# EAGLE library part MXD2125 (library diode-20CJQ030)
MEMSIC's MXD2125 G/H M/N FEATURES: Resolution better than 1 milli-g Dual axis accelerometer fabricated on a monolithic CMOS IC On chip mixed mode signal processing No moving parts 50,000 g shock survival rating 17 Hz bandwidth expandable to >160 Hz 3.0V to 5.25V single supply continuous operation Continuous self test Independent axis programmability (special order) Compensated for Sensitivity over temperature Ultra low initial Zero-g Offset APPLICATIONS: Automotive: Vehicle Security/Vehicle stability control/ Headlight Angle Control/Tilt Sensing Security: Gas Line/Elevator/Fatigue Sensing Information Appliances Computer Peripherals/PDA?s/Mouse Smart Pens/Cell Phones Gaming: Joystick/RF Interface/Menu Selection/Tilt Sensing GPS: electronic Compass tilt Correction Consumer: LCD projectors, pedometers, blood pressure Monitor, digital cameras GENERAL DESCRIPTION The MXD2125G/H/M/N is a low cost, dual axis accelerometer fabricated on a standard, submicron CMOS process. It is a complete sensing system with on-chip mixed mode signal processing. The MXD2125G/H/M/N measures acceleration with a full-scale range of ±3 g and a sensitivity of 12.5%/g @5V at 25°C. It can measure both dynamic acceleration (e.g. vibration) and static acceleration (e.g. gravity). The MXD2125G/H/M/N design is based on heat convection and requires no solid proof mass. This eliminates stiction and particle problems associated with competitive devices and provides shock survival of 50,000 g, leading to significantly lower failure rate and lower loss due to handling during assembly. The MXD2125G/H/M/N provides two digital outputs that are set to 50% duty cycle at zero g acceleration. The outputs are digital with duty cycles (ratio of pulse width to period) that are proportional to acceleration. The duty cycle outputs can be directly interfaced to a microprocessor. The typical noise floor is 0.2 mg/ Hz allowing signals below 1 milli-g to be resolved at 1 Hz bandwidth. The MXD2125G/H/M/N is packaged in a hermetically sealed LCC surface mount package (5 mm x 5 mm x 2 mm height) and is operational over a -40°C to 105°C(M/N) and 0°C to 70°C(G/H) temperature range. Please send any comments to: messi@users.sourceforge.net
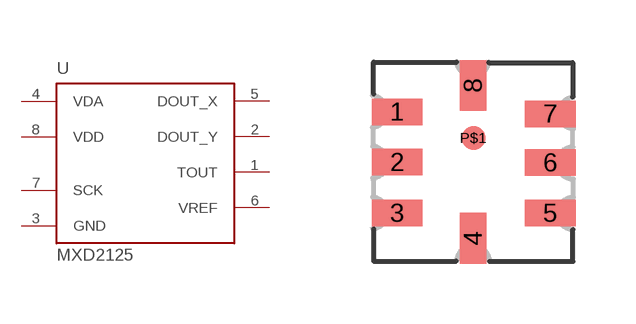
[diagram p48: symbol with the pads of LCC-8; footprint LCC-8]

Designator prefix U

## MXD2125  [LCC-8]
1  TOUT  out
2  DOUT_Y  out
3  GND  pwr
4  VDA  pwr
5  DOUT_X  out
6  VREF  out
7  SCK  in
8  VDD  pwr

## Footprint LCC-8 (pad centres in mm)
LEADED CHIP CARRIER
smd 1.27 x 0.66: 1 -1.91,1.25; 2 -1.91,-0.01; 3 -1.91,-1.28; 5 1.92,-1.28; 6 1.92,-0.02; 7 1.92,1.2
smd 0.66 x 1.27: 4 -0.01,-1.91; 8 -0.01,1.91
smd 0.6 x 0.6: P$1 0,0.6